# Altium schematic symbol library 0532611571.Schlib: 1 symbol
Pins are listed as number, name and electrical type; pins without a type are passive.

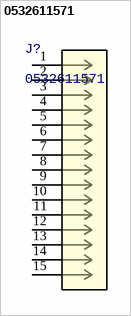
[diagram p0: symbol 0532611571]

## 0532611571
designator J?
Picoblade 1.25 mm wire-to-board connector, 15 circuits
footprint WM7632CT-ND (Molex PicoBlade 53261 15 Pos)
pins: 1 "GND", 2, 3, 4, 5, 6, 7, 8, 9, 10, 11, 12, 13, 14, 15